# Altium footprint library FT231XQ-R.PcbLib: 4 footprints
Each footprint in its own frame and in the unit in brackets; x right, y up, seen from the top. Pads: shape width x height; smd on the part's side, far side on the other; paste and mask are expansions set on the pad; w line width, h text height; cw(c..) or ccw(c..) is an arc to the next point about the centre after c.
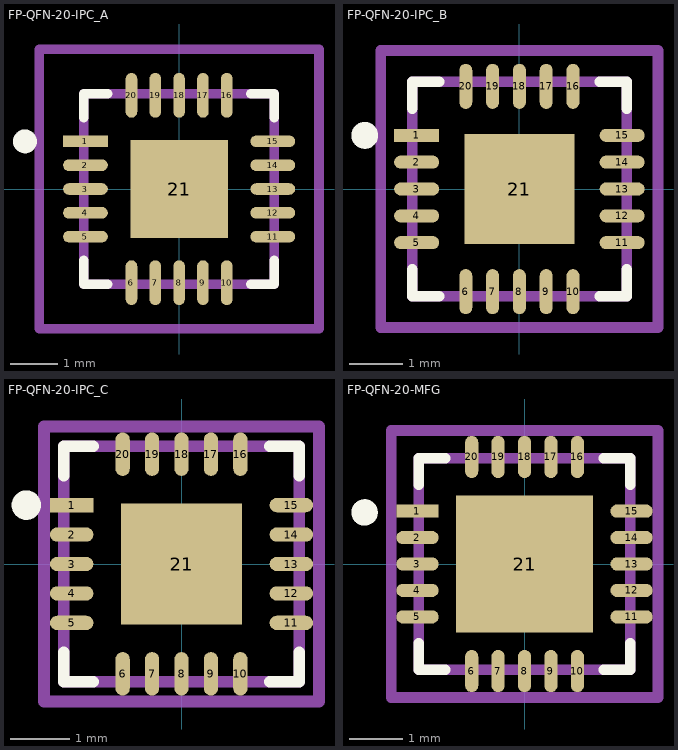
[diagram p0: the footprints below, top view; thin cyan lines are the x and y axes]

## FP-QFN-20-IPC_A [mm]
pads (21):
  rect 0.94x0.242 smd paste+0 mask+0: 1(-1.966,1)
  rrect100% 0.94x0.242 smd paste+0 mask+0: 2(-1.966,0.5) 3(-1.966,0) 4(-1.966,-0.5) 5(-1.966,-1) 11(1.966,-1) 12(1.966,-0.5) 13(1.966,0) 14(1.966,0.5) 15(1.966,1)
  rrect100% 0.242x0.94 smd paste+0 mask+0: 6(-1,-1.966) 7(-0.5,-1.966) 8(0,-1.966) 9(0.5,-1.966) 10(1,-1.966) 16(1,1.966) 17(0.5,1.966) 18(0,1.966) 19(-0.5,1.966) 20(-1,1.966)
  rect 2.05x2.05 smd paste-1000 mask+0: 21(0,0)
Top Overlay:
  circle w0.25: c-3.235,1 r0.125
  lines w0.2: -2,-1.5 -2,-2 -1.5,-2 ; -2,1.5 -2,2 -1.5,2 ; 1.5,-2 2,-2 2,-1.5 ; 1.5,2 2,2 2,1.5
Top Paste:
  rectangle: -0.648,-0.648 0.648,0.648
Top Assembly:
  lines w0.2: -2.935,-2.935 2.935,-2.935 2.935,2.935 -2.935,2.935 -2.935,-2.935
  text ".Designator" at 0,0.188 h1
Top 3D Body:
  lines w0.2: -2,-2 2,-2 2,2 -2,2 -2,-2
Top Courtyard:
  lines w0.2: -2.935,-2.935 2.935,-2.935 2.935,2.935 -2.935,2.935 -2.935,-2.935
Top Component Center:
  lines w0.1: -0.5,0 0.5,0 ; 0,-0.5 0,0.5
3D body "IC_FTDI_FT231XQ-R_eec.STEP": height 0.25, standoff 0, extent -2.935,-2.935 2.935,2.935

## FP-QFN-20-IPC_B [mm]
pads (21):
  rect 0.84x0.242 smd paste+0 mask+0: 1(-1.916,1)
  rrect100% 0.84x0.242 smd paste+0 mask+0: 2(-1.916,0.5) 3(-1.916,0) 4(-1.916,-0.5) 5(-1.916,-1) 11(1.916,-1) 12(1.916,-0.5) 13(1.916,0) 14(1.916,0.5) 15(1.916,1)
  rrect100% 0.242x0.84 smd paste+0 mask+0: 6(-1,-1.916) 7(-0.5,-1.916) 8(0,-1.916) 9(0.5,-1.916) 10(1,-1.916) 16(1,1.916) 17(0.5,1.916) 18(0,1.916) 19(-0.5,1.916) 20(-1,1.916)
  rect 2.05x2.05 smd paste-1000 mask+0: 21(0,0)
Top Overlay:
  circle w0.25: c-2.885,1 r0.125
  lines w0.2: -2,-1.5 -2,-2 -1.5,-2 ; -2,1.5 -2,2 -1.5,2 ; 1.5,-2 2,-2 2,-1.5 ; 1.5,2 2,2 2,1.5
Top Paste:
  rectangle: -0.648,-0.648 0.648,0.648
Top Assembly:
  lines w0.2: -2.585,-2.585 2.585,-2.585 2.585,2.585 -2.585,2.585 -2.585,-2.585
  text ".Designator" at 0,0.188 h1
Top 3D Body:
  lines w0.2: -2,-2 2,-2 2,2 -2,2 -2,-2
Top Courtyard:
  lines w0.2: -2.585,-2.585 2.585,-2.585 2.585,2.585 -2.585,2.585 -2.585,-2.585
Top Component Center:
  lines w0.1: -0.5,0 0.5,0 ; 0,-0.5 0,0.5
3D body "IC_FTDI_FT231XQ-R_eec.STEP": height 0.25, standoff 0, extent -2.585,-2.585 2.585,2.585

## FP-QFN-20-IPC_C [mm]
pads (21):
  rect 0.74x0.242 smd paste+0 mask+0: 1(-1.866,1)
  rrect100% 0.74x0.242 smd paste+0 mask+0: 2(-1.866,0.5) 3(-1.866,0) 4(-1.866,-0.5) 5(-1.866,-1) 11(1.866,-1) 12(1.866,-0.5) 13(1.866,0) 14(1.866,0.5) 15(1.866,1)
  rrect100% 0.242x0.74 smd paste+0 mask+0: 6(-1,-1.866) 7(-0.5,-1.866) 8(0,-1.866) 9(0.5,-1.866) 10(1,-1.866) 16(1,1.866) 17(0.5,1.866) 18(0,1.866) 19(-0.5,1.866) 20(-1,1.866)
  rect 2.05x2.05 smd paste-1000 mask+0: 21(0,0)
Top Overlay:
  circle w0.25: c-2.635,1 r0.125
  lines w0.2: -2,-1.5 -2,-2 -1.5,-2 ; -2,1.5 -2,2 -1.5,2 ; 1.5,-2 2,-2 2,-1.5 ; 1.5,2 2,2 2,1.5
Top Paste:
  rectangle: -0.648,-0.648 0.648,0.648
Top Assembly:
  lines w0.2: -2.335,-2.335 2.335,-2.335 2.335,2.335 -2.335,2.335 -2.335,-2.335
  text ".Designator" at 0,0.188 h1
Top 3D Body:
  lines w0.2: -2,-2 2,-2 2,2 -2,2 -2,-2
Top Courtyard:
  lines w0.2: -2.335,-2.335 2.335,-2.335 2.335,2.335 -2.335,2.335 -2.335,-2.335
Top Component Center:
  lines w0.1: -0.5,0 0.5,0 ; 0,-0.5 0,0.5
3D body "IC_FTDI_FT231XQ-R_eec.STEP": height 0.25, standoff 0, extent -2.335,-2.335 2.335,2.335

## FP-QFN-20-MFG [mm]
pads (21):
  rect 0.8x0.25 smd paste+0 mask+0: 1(-2.025,1)
  rrect100% 0.8x0.25 smd paste+0 mask+0: 2(-2.025,0.5) 3(-2.025,0) 4(-2.025,-0.5) 5(-2.025,-1) 11(2.025,-1) 12(2.025,-0.5) 13(2.025,0) 14(2.025,0.5) 15(2.025,1)
  rrect100% 0.25x0.8 smd paste+0 mask+0: 6(-1,-2.025) 7(-0.5,-2.025) 8(0,-2.025) 9(0.5,-2.025) 10(1,-2.025) 16(1,2.025) 17(0.5,2.025) 18(0,2.025) 19(-0.5,2.025) 20(-1,2.025)
  rect 2.6x2.6 smd paste+0 mask+0: 21(0,0)
Top Overlay:
  circle w0.25: c-3.025,0.975 r0.125
  lines w0.2: -2,-1.5 -2,-2 -1.5,-2 ; -2,1.5 -2,2 -1.5,2 ; 1.5,-2 2,-2 2,-1.5 ; 1.5,2 2,2 2,1.5
Top Assembly:
  lines w0.2: -2.525,-2.525 2.525,-2.525 2.525,2.525 -2.525,2.525 -2.525,-2.525
  text ".Designator" at 0,0.188 h1
Top 3D Body:
  lines w0.2: -2,-2 2,-2 2,2 -2,2 -2,-2
Top Courtyard:
  lines w0.2: -2.525,-2.525 2.525,-2.525 2.525,2.525 -2.525,2.525 -2.525,-2.525
Top Component Center:
  lines w0.1: -0.5,0 0.5,0 ; 0,-0.5 0,0.5
3D body "IC_FTDI_FT231XQ-R_eec.STEP": height 0.25, standoff 0, extent -2.525,-2.525 2.525,2.525